# Altium schematic symbol library DF173P0-20DS-0P5V57.SchLib: 1 symbol
Pins are listed as number, name and electrical type; pins without a type are passive.

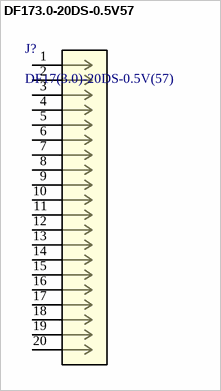
[diagram p0: symbol DF173.0-20DS-0.5V57]

## DF173.0-20DS-0.5V57
designator J?, comment DF17(3.0)-20DS-0.5V(57)
Description; Manufacturer_Name: Hirose; Copyright: Copyright (C) 2025 Ultra Librarian. All rights reserved.; Manufacturer_Part_Number: DF17(3.0)-20DS-0.5V(57); RefDes: RefDes; Type: Type
footprint CONN_DF173.0-20DS-0.5V57_HIR
pins: 1, 2, 3, 4, 5, 6, 7, 8, 9, 10, 11, 12, 13, 14, 15, 16, 17, 18, 19, 20